# Altium footprint library Interactive.PcbLib: 6 footprints
Each footprint in its own frame and in the unit in brackets; x right, y up, seen from the top. Pads: shape width x height; smd on the part's side, far side on the other; paste and mask are expansions set on the pad; w line width, h text height; cw(c..) or ccw(c..) is an arc to the next point about the centre after c.
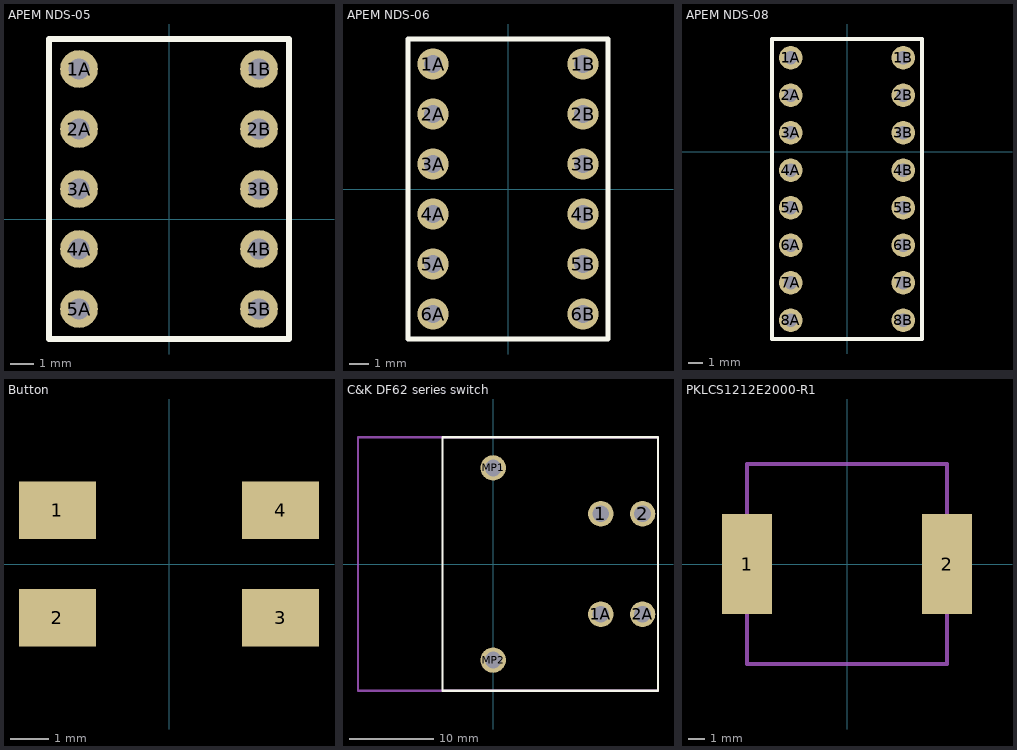
[diagram p0: the footprints below, top view; thin cyan lines are the x and y axes]

## APEM NDS-05 [mm]
pads (10):
  round 1.6 hole 0.9: 1A(-3.81,6.35) 1B(3.81,6.35) 2A(-3.81,3.81) 2B(3.81,3.81) 3A(-3.81,1.27) 3B(3.81,1.27) 4A(-3.81,-1.27) 4B(3.81,-1.27) 5A(-3.81,-3.81) 5B(3.81,-3.81)
Top Overlay:
  lines w0.254: -5.08,-5.08 -5.08,7.62 5.08,7.62 5.08,-5.08 -5.08,-5.08
3D body: height 7.05, standoff 0, extent -5.08,-5.08 5.08,7.62

## APEM NDS-06 [mm]
pads (12):
  round 1.6 hole 0.9: 1A(-3.81,6.35) 1B(3.81,6.35) 2A(-3.81,3.81) 2B(3.81,3.81) 3A(-3.81,1.27) 3B(3.81,1.27) 4A(-3.81,-1.27) 4B(3.81,-1.27) 5A(-3.81,-3.81) 5B(3.81,-3.81) 6A(-3.81,-6.35) 6B(3.81,-6.35)
Top Overlay:
  lines w0.254: -5.08,-7.62 5.08,-7.62 5.08,7.62 -5.08,7.62 -5.08,-7.62
3D body: height 7.05, standoff 0, extent -5.08,-7.62 5.08,7.62

## APEM NDS-08 [mm]
pads (16):
  round 1.6 hole 0.9: 1A(-3.81,6.35) 1B(3.81,6.35) 2A(-3.81,3.81) 2B(3.81,3.81) 3A(-3.81,1.27) 3B(3.81,1.27) 4A(-3.81,-1.27) 4B(3.81,-1.27) 5A(-3.81,-3.81) 5B(3.81,-3.81) 6A(-3.81,-6.35) 6B(3.81,-6.35) 7A(-3.81,-8.89) 7B(3.81,-8.89) 8A(-3.81,-11.43) 8B(3.81,-11.43)
Top Overlay:
  lines w0.254: -5.08,-12.7 -5.08,7.62 5.08,7.62 5.08,-12.7 -5.08,-12.7
3D body: height 7.05, standoff 0, extent -5.08,-12.7 5.08,7.62

## Button [mm]
pads (4):
  rect 2x1.5 smd: 1(-2.9,1.4) 2(-2.9,-1.4) 3(2.9,-1.4) 4(2.9,1.4)
3D body: height 3.8, standoff 0, extent -3.75,-2.25 3.75,2.25

## C&K DF62 series switch [mm] "DF62 series rocker switch"
pads (6):
  round 3 hole 2: 1(12.73,5.945) 1A(12.73,-5.945) 2(17.68,5.945) 2A(17.68,-5.945) MP1(0,11.38) MP2(0,-11.38)
Top Overlay:
  lines w0.254: -6,-15 19.5,-15 19.5,15 -6,15 -6,-15
Mechanical 3:
  lines w0.254: -16,-15 -16,15 19.5,15 19.5,-15 -16,-15

## PKLCS1212E2000-R1 [mm]
pads (2):
  rect 3x6 smd: 1(-6,0) 2(6,0)
Mechanical 1:
  lines w0.254: -6,-6 6,-6 6,6 -6,6 -6,-6
3D body: height 3, standoff 0, extent -6,-6 6,6